# EAGLE library part 691311500109 (library Wurth_Terminal_Blocks_Connectors_rev15d)
WR-TBL Serie 311 - 5.08 mm Close Vertical PCB Header , 9 Pins=>Code : Con_TBL_Pluggable_5.08_PCB_THT_Simple_V_691311500109 <http://katalog.we-online.de/media/images/eican/Con_TBL_Pluggable_5.08_PCB_THT_Simple_V_6913115001xx_pf2.jpg> Details see: http://katalog.we-online.de/en/em/691_311_500_1xx Created 2014-06-23, Karrer Zheng 2014 (C) Würth Elektronik
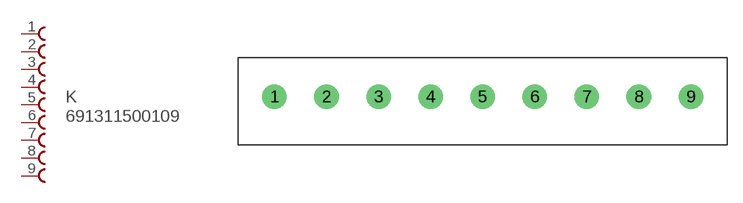
[diagram p75: symbol with the pads of 691311500109; footprint 691311500109]

Designator prefix K

## 691311500109  [691311500109]
1  1  pas
2  2  pas
3  3  pas
4  4  pas
5  5  pas
6  6  pas
7  7  pas
8  8  pas
9  9  pas

## Footprint 691311500109 (pad centres in mm)
WR-TBL Serie 311 - 5.08 mm Close Vertical PCB Header , 9 Pins
drill 1.6: 1 -35.56,0; 2 -30.48,0; 3 -25.4,0; 4 -20.32,0; 5 -15.24,0; 6 -10.16,0; 7 -5.08,0; 8 0,0; 9 5.08,0